# Altium footprint library pinus.PcbLib: 7 footprints
Each footprint in its own frame and in the unit in brackets; x right, y up, seen from the top. Pads: shape width x height; smd on the part's side, far side on the other; paste and mask are expansions set on the pad; w line width, h text height; cw(c..) or ccw(c..) is an arc to the next point about the centre after c.
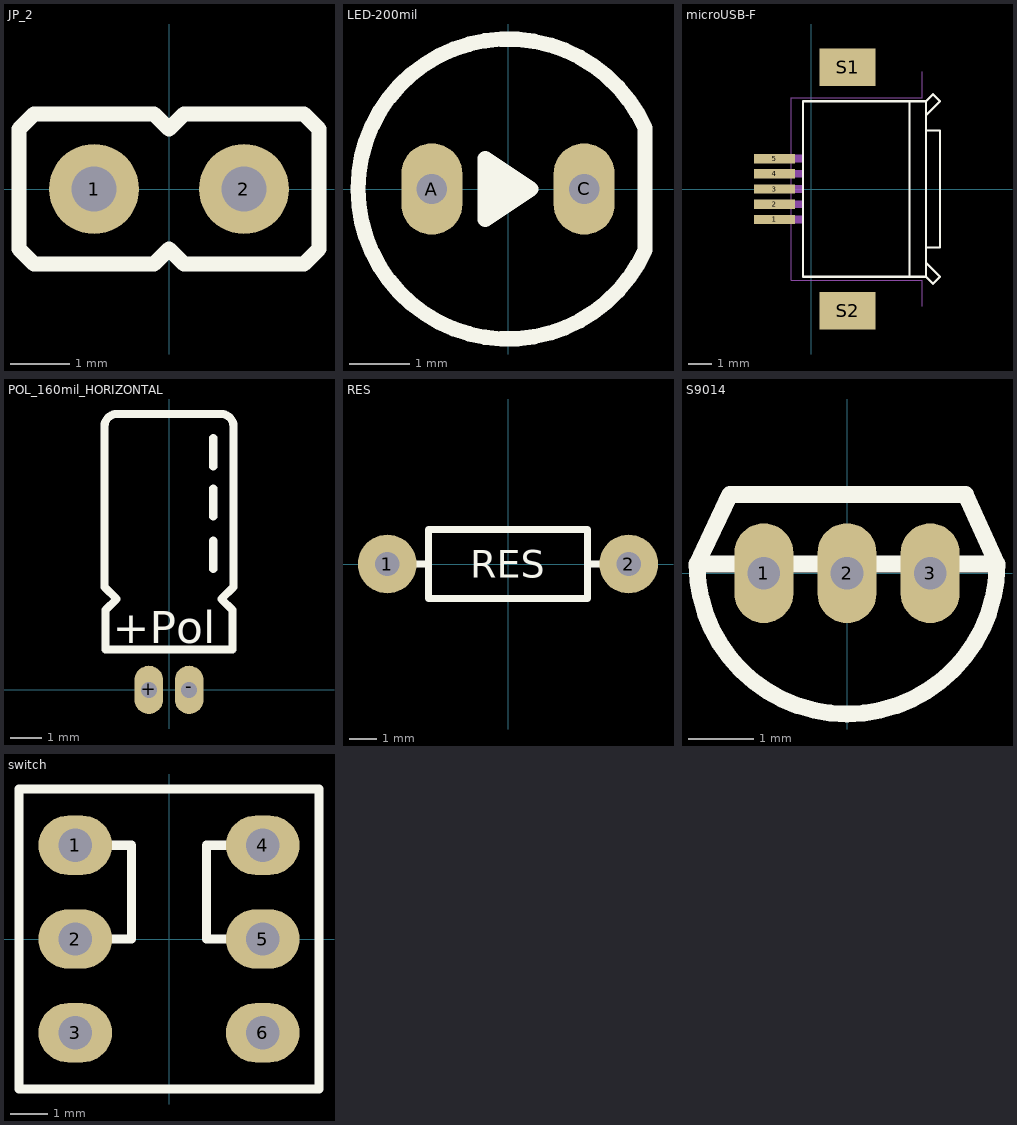
[diagram p0: the footprints below, top view; thin cyan lines are the x and y axes]

## JP_2 [mil] "jump"
pads (2):
  round 60 hole 30: 1(-50,0) 2(50,0)
Top Overlay:
  lines w10: 100,-40 100,40 ; 100,-40 90,-50 10,-50 0,-40 -10,-50 -90,-50 -100,-40 -100,40 -90,50 -10,50 0,40 10,50 90,50 100,40 ; 100,-40 100,40

## LED-200mil [mil] "LED 2 chân size 200x350-mil"
height 350
pads (2):
  oval 40x60 hole 20: A(-50,0) C(50,0)
Top Overlay:
  lines w10: -2.5,-5 -10,10 5,0 -10,-10 -15,20 ; -15,20 -15,-20 15,0 -15,20 ; 90,-40 cw(c0,0) 90,40 90,-40

## microUSB-F [mm] "microUSB female 2 di?m ch?t c?nh bên"
height 2.54
pads (7):
  rect 1.75x0.4 smd: 1(-1.561,-1.301) 2(-1.561,-0.651) 3(-1.561,-0.001) 4(-1.561,0.649) 5(-1.561,1.299)
  rect 2.4x1.6 smd: S1(1.561,5.207) S2(1.561,-5.207)
Top Overlay:
  lines w0.1: 4.207,-3.75 4.207,3.75 ; 4.907,-3.75 -0.343,-3.75 -0.343,3.75 4.907,3.75 ; 4.907,-3.75 4.907,-3.15 ; 4.907,-3.75 5.207,-4.05 5.507,-3.75 4.907,-3.15 ; 4.907,-3.15 4.907,-2.5 ; 4.907,-2.5 4.907,2.5 ; 4.907,-2.5 5.507,-2.5 5.507,2.5 4.907,2.5 ; 4.907,2.5 4.907,3.15 ; 4.907,3.15 4.907,3.75 ; 4.907,3.15 5.507,3.75 5.207,4.05 4.907,3.75
Mechanical 1:
  region: -0.344,-1.46 -2.199,-1.46 -2.199,-1.145 -0.344,-1.145
  region: -0.345,-0.808 -2.199,-0.808 -2.199,-0.496 -0.345,-0.496
  region: -0.344,-0.159 -2.196,-0.159 -2.196,0.157 -0.344,0.157
  region: -0.347,0.493 -2.197,0.493 -2.197,0.806 -0.347,0.806
  region: -0.345,1.142 -2.195,1.142 -2.195,1.458 -0.345,1.458
  lines w0: 4.757,-5 4.757,-3.9 -0.843,-3.9 -0.843,3.9 4.757,3.9 4.757,5

## POL_160mil_HORIZONTAL [mm]
height 4.064
pads (2):
  oval 0.9x1.524 hole 0.5: +(-0.635,0) -(0.635,0)
Top Overlay:
  lines w0.254: 1.397,3.816 1.397,4.705 ; 1.397,5.467 1.397,6.356 ; 1.397,7.055 1.397,7.944 ; -2.032,3.245 -1.651,2.864 -2,2.515 -2,1.27 2,1.27 2,2.515 1.651,2.864 2.032,3.245 2.032,8.325 ccw(c1.651,8.325) 1.651,8.706 -1.651,8.706 ccw(c-1.651,8.325) -2.032,8.325 -2.032,3.245
  text "+Pol" at -1.77,1.475 h1.02

## RES [mil]
height 80
pads (2):
  round 85 hole 35: 1(-175,0) 2(175,0)
Top Overlay:
  lines w10: -135,0 -115,0 ; 115,0 135,0 ; -115,-50 -115,50 115,50 115,-50 -115,-50
  text "RES" at -55,-20 h40

## S9014 [mm]
height 4.572
pads (3):
  oval 0.9x1.524 hole 0.5: 1(-1.27,0) 2(0,0) 3(1.27,0)
Top Overlay:
  lines w0.254: -1.72,0.14 -2.29,0.14 ; -0.82,0.14 -0.44,0.14 ; 0.44,0.14 0.82,0.14 ; 1.72,0.14 2.29,0.14 ; -2.29,0.14 ccw(c0,0.14) 2.29,0.14 ; -2.29,0.14 -1.79,1.2 1.81,1.2 2.29,0.14

## switch [mm]
height 15.24
pads (6):
  oval 2x1.6 hole 0.9: 1(-2.54,2.54) 2(-2.54,0) 3(-2.54,-2.54) 4(2.54,2.54) 5(2.54,0) 6(2.54,-2.54)
Top Overlay:
  lines w0.254: -1.524,0 -1.016,0 -1.016,2.54 -1.524,2.54 ; 1.524,0 1.016,0 1.016,2.54 1.524,2.54 ; -4.064,-4.064 4.064,-4.064 4.064,4.064 -2.54,4.064 -4.064,4.064 -4.064,-4.064